# Altium footprint library RESISTOR_SMD.PcbLib: 8 footprints
Each footprint in its own frame and in the unit in brackets; x right, y up, seen from the top. Pads: shape width x height; smd on the part's side, far side on the other; paste and mask are expansions set on the pad; w line width, h text height; cw(c..) or ccw(c..) is an arc to the next point about the centre after c.
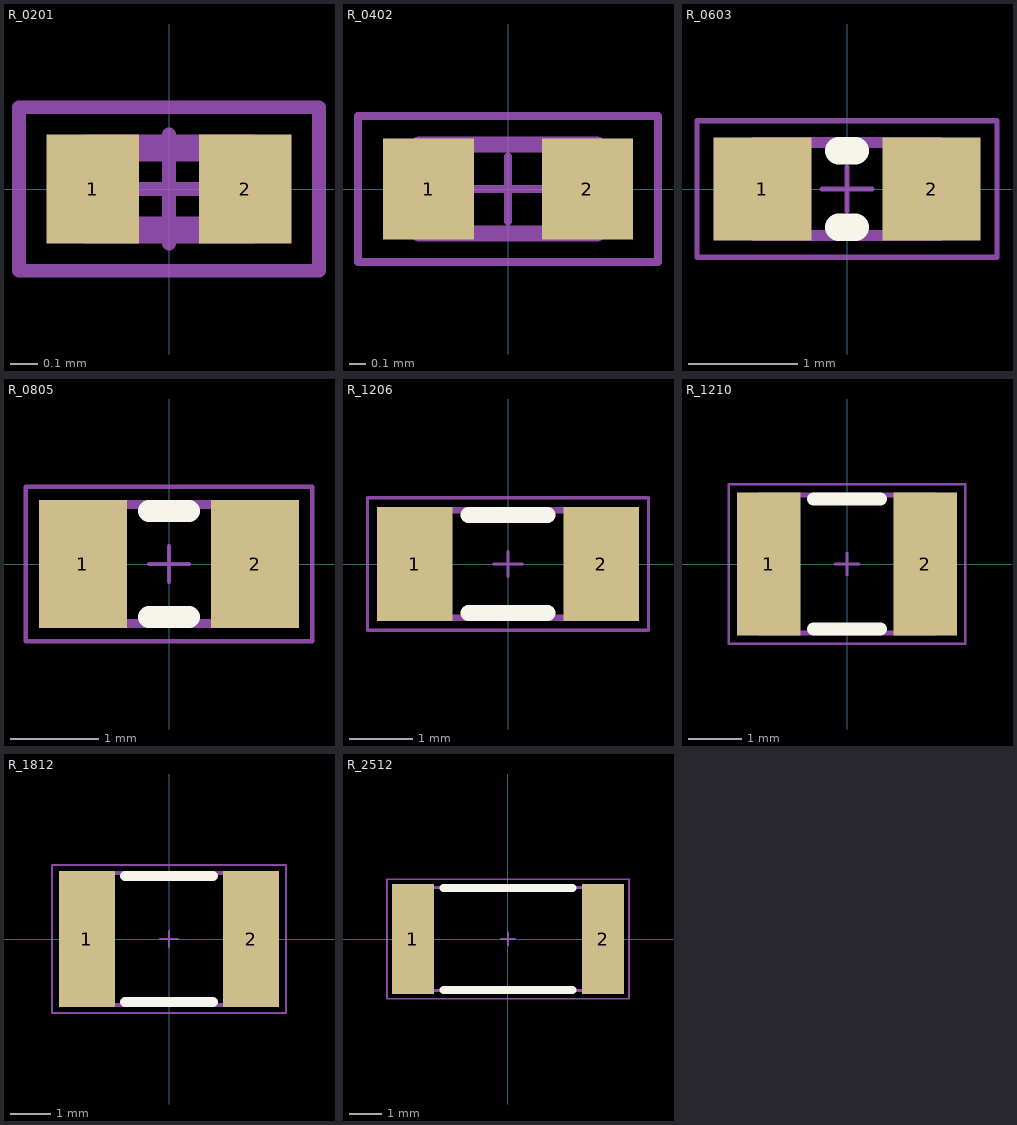
[diagram p0: the footprints below, top view; thin cyan lines are the x and y axes]

## R_0201 [mm] "Resistor SMD 0201."
height 0.9
pads (2):
  rect 0.34x0.4 smd: 1(-0.28,0) 2(0.28,0)
Mechanical 13:
  lines w0.1: -0.3,-0.15 0.3,-0.15 0.3,0.15 -0.3,0.15 -0.3,-0.15
Mechanical 15:
  lines w0.05: -0.225,0 0.225,0 ; 0,-0.2 0,0.2 ; -0.55,-0.3 -0.55,0.3 0.55,0.3 0.55,-0.3 -0.55,-0.3
3D body "R_0201_0603Metric.step": height 0.23, standoff 0, extent -0.3,-0.15 0.3,0.15

## R_0402 [mm] "Resistor SMD 0402."
height 0.9
pads (2):
  rect 0.56x0.62 smd: 1(-0.49,0) 2(0.49,0)
Mechanical 13:
  lines w0.1: -0.55,-0.275 0.55,-0.275 0.55,0.275 -0.55,0.275 -0.55,-0.275
Mechanical 15:
  lines w0.05: -0.225,0 0.225,0 ; 0,-0.2 0,0.2 ; -0.925,-0.45 -0.925,0.45 0.925,0.45 0.925,-0.45 -0.925,-0.45
3D body "R_0402_1005Metric.step": height 0.35, standoff 0, extent -0.5,-0.25 0.5,0.25

## R_0603 [mm] "Resistor SMD 0603."
height 0.9
pads (2):
  rect 0.9x0.94 smd: 1(-0.775,0) 2(0.775,0)
Top Overlay:
  lines w0.25: -0.075,-0.35 0.075,-0.35 ; -0.075,0.35 0.075,0.35
Mechanical 13:
  lines w0.1: -0.85,-0.425 -0.85,0.425 0.85,0.425 0.85,-0.425 -0.85,-0.425
Mechanical 15:
  lines w0.05: -0.225,0 0.225,0 ; 0,-0.2 0,0.2 ; -1.375,-0.625 -1.375,0.625 1.375,0.625 1.375,-0.625 -1.375,-0.625
3D body "R_0603_1608Metric.step": height 0.45, standoff 0, extent -0.8,-0.4 0.8,0.4

## R_0805 [mm] "Resistor SMD 0805."
height 0.9
pads (2):
  rect 1x1.45 smd: 1(-0.975,0) 2(0.975,0)
Top Overlay:
  lines w0.25: -0.225,-0.6 0.225,-0.6 ; -0.225,0.6 0.225,0.6
Mechanical 13:
  lines w0.1: -1.05,-0.675 1.05,-0.675 1.05,0.675 -1.05,0.675 -1.05,-0.675
Mechanical 15:
  lines w0.05: -0.225,0 0.225,0 ; 0,-0.2 0,0.2 ; -1.625,-0.875 1.625,-0.875 1.625,0.875 -1.625,0.875 -1.625,-0.875
3D body "R_0805_2012Metric.step": height 0.45, standoff 0, extent -1,-0.6 1,0.6

## R_1206 [mm] "Resistor SMD 1206."
height 0.9
pads (2):
  rect 1.2x1.8 smd: 1(-1.475,0) 2(1.475,0)
Top Overlay:
  lines w0.25: -0.625,-0.775 0.625,-0.775 ; -0.625,0.775 0.625,0.775
Mechanical 13:
  lines w0.1: -1.65,-0.85 -1.65,0.85 1.65,0.85 1.65,-0.85 -1.65,-0.85
Mechanical 15:
  lines w0.05: -0.225,0 0.225,0 ; 0,-0.2 0,0.2 ; -2.225,-1.05 2.225,-1.05 2.225,1.05 -2.225,1.05 -2.225,-1.05
3D body "R_1206_3216Metric.step": height 0.55, standoff 0, extent -1.6,-0.8 1.6,0.8

## R_1210 [mm] "Resistor SMD 1210."
height 0.9
pads (2):
  rect 1.2x2.7 smd: 1(-1.475,0) 2(1.475,0)
Top Overlay:
  lines w0.25: -0.625,-1.225 0.625,-1.225 ; -0.625,1.225 0.625,1.225
Mechanical 13:
  lines w0.1: -1.65,-1.3 1.65,-1.3 1.65,1.3 -1.65,1.3 -1.65,-1.3
Mechanical 15:
  lines w0.05: -0.225,0 0.225,0 ; 0,-0.2 0,0.2 ; -2.225,-1.5 -2.225,1.5 2.225,1.5 2.225,-1.5 -2.225,-1.5
3D body "R_1210_3225Metric.step": height 0.55, standoff 0, extent -1.6,-1.25 1.6,1.25

## R_1812 [mm] "Resistor SMD 1812."
height 0.9
pads (2):
  rect 1.4x3.4 smd: 1(-2.05,0) 2(2.05,0)
Top Overlay:
  lines w0.25: -1.1,-1.575 1.1,-1.575 ; -1.1,1.575 1.1,1.575
Mechanical 13:
  lines w0.1: -2.3,-1.65 2.3,-1.65 2.3,1.65 -2.3,1.65 -2.3,-1.65
Mechanical 15:
  lines w0.05: -0.225,0 0.225,0 ; 0,-0.2 0,0.2 ; -2.925,-1.85 -2.925,1.85 2.925,1.85 2.925,-1.85 -2.925,-1.85
3D body "R_1812_4532Metric.step": height 0.6, standoff 0, extent -2.25,-1.6 2.25,1.6

## R_2512 [mm] "Resistor SMD 2512."
pads (2):
  rect 1.3x3.4 smd: 1(-2.95,0) 2(2.95,0)
Top Overlay:
  lines w0.25: -2,-1.575 2,-1.575 ; -2,1.575 2,1.575
Mechanical 13:
  lines w0.1: -3.15,-1.6 -3.15,1.6 3.15,1.6 3.15,-1.6 -3.15,-1.6
Mechanical 15:
  lines w0.05: -0.225,0 0.225,0 ; 0,-0.2 0,0.2 ; -3.75,-1.85 3.75,-1.85 3.75,1.85 -3.75,1.85 -3.75,-1.85
3D body "R_2512_6332Metric.step": height 0.6, standoff 0, extent -3.15,-1.6 3.15,1.6